# Altium integrated library Module.IntLib: 6 symbols
Pins are listed as number, name and electrical type; pins without a type are passive.

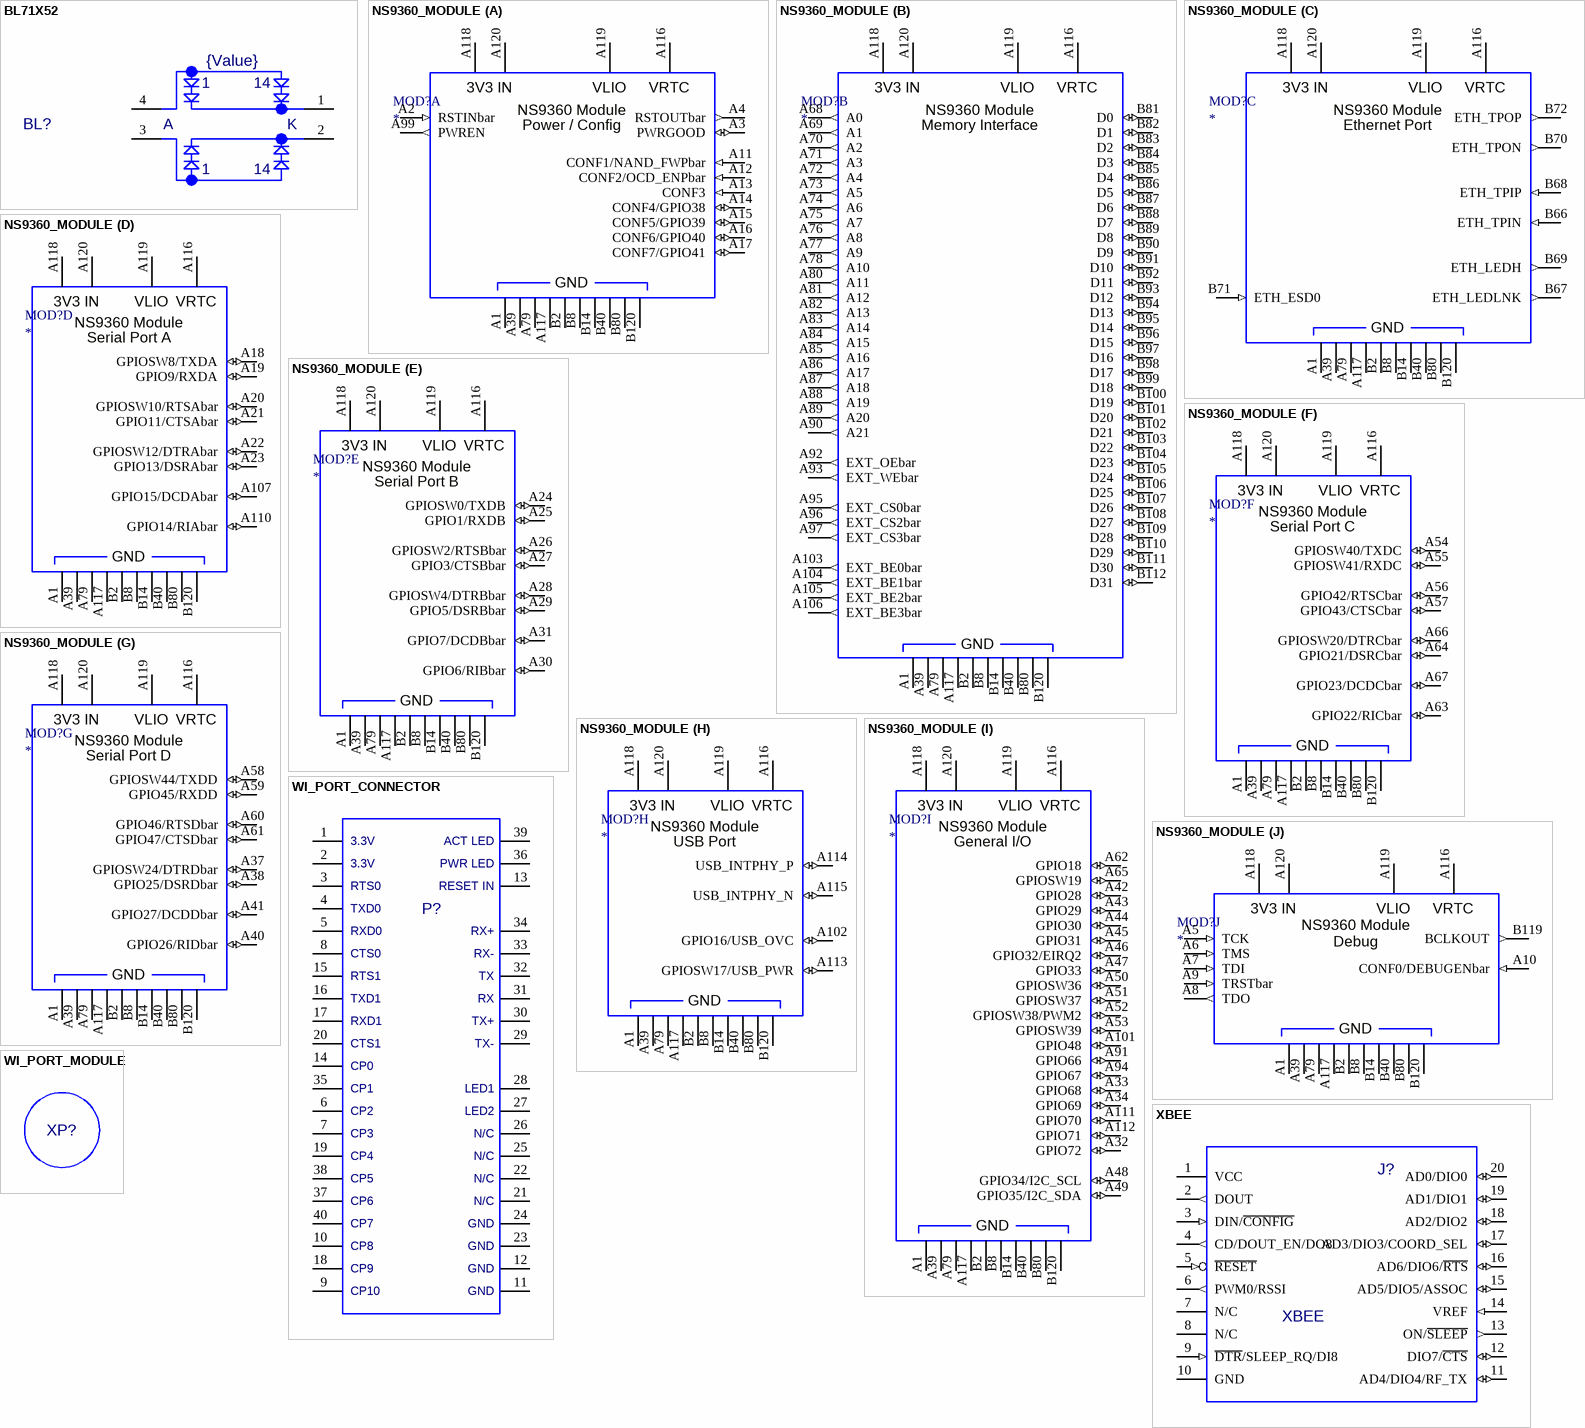
[diagram p0: symbols BL71X52 to XBEE]

## BL71X52
designator BL?, comment value {Value}  (hidden comment: TMP_US_BL71X52)
BACKLIGHT,; ECAD_Revsion: 1; Librarian: US; PartNumber: TMP_US_BL71X52; HelpURL: K:\ACCELEDA\PDF Spec Files\Display\; Item: *
footprint BL71X52 (?????)
pins: 1 K, 2 K, 3 A, 4 A
text: 14

## NS9360_MODULE
designator MOD?
MOD, Net Silicon NS9360 Module; PartNumber: AWT25-000120; ECAD_Revision: 1; Librarian: UK; HelpURL: *; Item: *; Power Rating: *
footprint NS9360_MODULE (Rev. 1)
part A pins: A1 GND (power) "Ground", A2 RSTINbar (in) "Reset Input", A3 PWRGOOD (io) "Power Good", A4 RSTOUTbar (out) "Reset Output", A11 CONF1/NAND_FWPbar (in) "NAND Flash Write Protect", A12 CONF2/OCD_ENPbar (in) "OCD Enable", A13 CONF3 (in) "Configuration 3", A14 CONF4/GPIO38 (io) "Configuration 4", A15 CONF5/GPIO39 (io) "Configuration 5", A16 CONF6/GPIO40 (io) "Configuration 6", A17 CONF7/GPIO41 (io) "Configuration 7", A39 GND (power) "Ground", A79 GND (power) "Ground", A99 PWREN (out) "Power Enable", A116 VRTC (power) "RTC Supply", A117 GND (power) "Ground", A118 3.3V_IN (power) "3.3V Supply", A119 VLIO (power) "Backup Supply", A120 3.3V_IN (power) "3.3V Supply", B2 GND (power) "Ground", B8 GND (power) "Ground", B14 GND (power) "Ground", B40 GND (power) "Ground", B80 GND (power) "Ground", B120 GND (power) "Ground"
part B pins: A1 GND (power) "Ground", A39 GND (power) "Ground", A68 A0 (out) "Address 0", A69 A1 (out) "Address 1", A70 A2 (out) "Address 2", A71 A3 (out) "Address 3", A72 A4 (out) "Address 4", A73 A5 (out) "Address 5", A74 A6 (out) "Address 6", A75 A7 (out) "Address 7", A76 A8 (out) "Address 8", A77 A9 (out) "Address 9", A78 A10 (out) "Address 10", A79 GND (power) "Ground", A80 A11 (out) "Address 11", A81 A12 (out) "Address 12", A82 A13 (out) "Address 13", A83 A14 (out) "Address 14", A84 A15 (out) "Address 15", A85 A16 (out) "Address 16", A86 A17 (out) "Address 17", A87 A18 (out) "Address 18", A88 A19 (out) "Address 19", A89 A20 (out) "Address 20", A90 A21 (out) "Address 21", A92 EXT_OEbar (out) "Output Enable", A93 EXT_WEbar (out) "Write Enabe", A95 EXT_CS0bar (out) "Chip Select 0", A96 EXT_CS2bar (out) "Chip Select 1", A97 EXT_CS3bar (out) "Chip Select 2", A103 EXT_BE0bar (out) "Upper / Lower Byte Enable 0", A104 EXT_BE1bar (out) "Upper / Lower Byte Enable 1", A105 EXT_BE2bar (out) "Upper / Lower Byte Enable 2", A106 EXT_BE3bar (out) "Upper / Lower Byte Enable 3", A116 VRTC (power) "RTC Supply", A117 GND (power) "Ground", A118 3.3V_IN (power) "3.3V Supply", A119 VLIO (power) "Backup Supply", A120 3.3V_IN (power) "3.3V Supply", B2 GND (power) "Ground", B8 GND (power) "Ground", B14 GND (power) "Ground", B40 GND (power) "Ground", B80 GND (power) "Ground", B81 D0 (io) "Data 0", B82 D1 (io) "Data 1", B83 D2 (io) "Data 2", B84 D3 (io) "Data 3", B85 D4 (io) "Data 4", B86 D5 (io) "Data 5", B87 D6 (io) "Data 6", B88 D7 (io) "Data 7", B89 D8 (io) "Data 8", B90 D9 (io) "Data 9", B91 D10 (io) "Data 10", B92 D11 (io) "Data 11", B93 D12 (io) "Data 12", B94 D13 (io) "Data 13", B95 D14 (io) "Data 14", B96 D15 (io) "Data 15", B97 D16 (io) "Data 16", B98 D17 (io) "Data 17", B99 D18 (io) "Data 18", B100 D19 (io) "Data 19", B101 D20 (io) "Data 20", B102 D21 (io) "Data 21", B103 D22 (io) "Data 22", B104 D23 (io) "Data 23", B105 D24 (io) "Data 24", B106 D25 (io) "Data 25", B107 D26 (io) "Data 26", B108 D27 (io) "Data 27", B109 D28 (io) "Data 28", B110 D29 (io) "Data 29", B111 D30 (io) "Data 30", B112 D31 (io) "Data 31", B120 GND (power) "Ground"
part C pins: A1 GND (power) "Ground", A39 GND (power) "Ground", A79 GND (power) "Ground", A116 VRTC (power) "RTC Supply", A117 GND (power) "Ground", A118 3.3V_IN (power) "3.3V Supply", A119 VLIO (power) "Backup Supply", A120 3.3V_IN (power) "3.3V Supply", B2 GND (power) "Ground", B8 GND (power) "Ground", B14 GND (power) "Ground", B40 GND (power) "Ground", B66 ETH_TPIN (in) "Ethernet Input Negative", B67 ETH_LEDLNK (out) "Ethernet Line / Activity LED", B68 ETH_TPIP (in) "Ethernet Input Positive", B69 ETH_LEDH (out) "Ethernet High Speed LED", B70 ETH_TPON (out) "Ethernet Output Negative", B71 ETH_ESD0 (in) "Ethernet Test", B72 ETH_TPOP (out) "Ethernet Output Positive", B80 GND (power) "Ground", B120 GND (power) "Ground"
part D pins: A1 GND (power) "Ground", A18 GPIOSW8/TXDA (io) "General Purpose IO / Transmit Data A", A19 GPIO9/RXDA (io) "General Purpose IO / Receive Data A", A20 GPIOSW10/RTSAbar (io) "General Purpose IO / Ready To Send A", A21 GPIO11/CTSAbar (io) "General Purpose IO / Clear To Send A", A22 GPIOSW12/DTRAbar (io) "General Purpose IO / Data Terminal Ready A", A23 GPIO13/DSRAbar (io) "General Purpose IO / Data Set Ready A", A39 GND (power) "Ground", A79 GND (power) "Ground", A107 GPIO15/DCDAbar (io) "General Purpose IO / Data Carrier Detect A", A110 GPIO14/RIAbar (io) "General Purpose IO / Receive Interupt A", A116 VRTC (power) "RTC Supply", A117 GND (power) "Ground", A118 3.3V_IN (power) "3.3V Supply", A119 VLIO (power) "Backup Supply", A120 3.3V_IN (power) "3.3V Supply", B2 GND (power) "Ground", B8 GND (power) "Ground", B14 GND (power) "Ground", B40 GND (power) "Ground", B80 GND (power) "Ground", B120 GND (power) "Ground"
part E pins: A1 GND (power) "Ground", A24 GPIOSW0/TXDB (io) "General Purpose IO / Transmit Data B", A25 GPIO1/RXDB (io) "General Purpose IO / Receive Data B", A26 GPIOSW2/RTSBbar (io) "General Purpose IO / Ready To Send B", A27 GPIO3/CTSBbar (io) "General Purpose IO / Clear To Send B", A28 GPIOSW4/DTRBbar (io) "General Purpose IO / Data Terminal Ready B", A29 GPIO5/DSRBbar (io) "General Purpose IO / Data Set Ready B", A30 GPIO6/RIBbar (io) "General Purpose IO / Receive Interupt B", A31 GPIO7/DCDBbar (io) "General Purpose IO / Data Carrier Detect B", A39 GND (power) "Ground", A79 GND (power) "Ground", A116 VRTC (power) "RTC Supply", A117 GND (power) "Ground", A118 3.3V_IN (power) "3.3V Supply", A119 VLIO (power) "Backup Supply", A120 3.3V_IN (power) "3.3V Supply", B2 GND (power) "Ground", B8 GND (power) "Ground", B14 GND (power) "Ground", B40 GND (power) "Ground", B80 GND (power) "Ground", B120 GND (power) "Ground"
part F pins: A1 GND (power) "Ground", A39 GND (power) "Ground", A54 GPIOSW40/TXDC (io) "General Purpose IO / Transmit Data C", A55 GPIOSW41/RXDC (io) "General Purpose IO / Receive Data C", A56 GPIO42/RTSCbar (io) "General Purpose IO / Ready To Send C", A57 GPIO43/CTSCbar (io) "General Purpose IO / Clear To Send C", A63 GPIO22/RICbar (io) "General Purpose IO / Receive Interupt C", A64 GPIO21/DSRCbar (io) "General Purpose IO / Data Set Ready C", A66 GPIOSW20/DTRCbar (io) "General Purpose IO / Data Terminal Ready C", A67 GPIO23/DCDCbar (io) "General Purpose IO / Data Carrier Detect C", A79 GND (power) "Ground", A116 VRTC (power) "RTC Supply", A117 GND (power) "Ground", A118 3.3V_IN (power) "3.3V Supply", A119 VLIO (power) "Backup Supply", A120 3.3V_IN (power) "3.3V Supply", B2 GND (power) "Ground", B8 GND (power) "Ground", B14 GND (power) "Ground", B40 GND (power) "Ground", B80 GND (power) "Ground", B120 GND (power) "Ground"
part G pins: A1 GND (power) "Ground", A37 GPIOSW24/DTRDbar (io) "General Purpose IO / Data Terminal Ready D", A38 GPIO25/DSRDbar (io) "General Purpose IO / Data Set Ready D", A39 GND (power) "Ground", A40 GPIO26/RIDbar (io) "General Purpose IO / Receive Interupt D", A41 GPIO27/DCDDbar (io) "General Purpose IO / Data Carrier Detect D", A58 GPIOSW44/TXDD (io) "General Purpose IO / Transmit Data D", A59 GPIO45/RXDD (io) "General Purpose IO / Receive Data D", A60 GPIO46/RTSDbar (io) "General Purpose IO / Ready To Send D", A61 GPIO47/CTSDbar (io) "General Purpose IO / Clear To Send D", A79 GND (power) "Ground", A116 VRTC (power) "RTC Supply", A117 GND (power) "Ground", A118 3.3V_IN (power) "3.3V Supply", A119 VLIO (power) "Backup Supply", A120 3.3V_IN (power) "3.3V Supply", B2 GND (power) "Ground", B8 GND (power) "Ground", B14 GND (power) "Ground", B40 GND (power) "Ground", B80 GND (power) "Ground", B120 GND (power) "Ground"
part H pins: A1 GND (power) "Ground", A39 GND (power) "Ground", A79 GND (power) "Ground", A102 GPIO16/USB_OVC (io) "General Purpose IO / USB Over Current", A113 GPIOSW17/USB_PWR (io) "General Purpose IO / USB Power Relay", A114 USB_INTPHY_P (io) "USB Data Positive", A115 USB_INTPHY_N (io) "USB Data Negative", A116 VRTC (power) "RTC Supply", A117 GND (power) "Ground", A118 3.3V_IN (power) "3.3V Supply", A119 VLIO (power) "Backup Supply", A120 3.3V_IN (power) "3.3V Supply", B2 GND (power) "Ground", B8 GND (power) "Ground", B14 GND (power) "Ground", B40 GND (power) "Ground", B80 GND (power) "Ground", B120 GND (power) "Ground"
part I pins: A1 GND (power) "Ground", A32 GPIO72 (io) "General Purpose IO", A33 GPIO68 (io) "General Purpose IO", A34 GPIO69 (io) "General Purpose IO", A39 GND (power) "Ground", A42 GPIO28 (io) "General Purpose IO", A43 GPIO29 (io) "General Purpose IO", A44 GPIO30 (io) "General Purpose IO", A45 GPIO31 (io) "General Purpose IO", A46 GPIO32/EIRQ2 (io) "General Purpose IO / External Interupt 2", A47 GPIO33 (io) "General Purpose IO", A48 GPIO34/I2C_SCL (io) "General Purpose IO / I2C Clock", A49 GPIO35/I2C_SDA (io) "General Purpose IO / I2C Data", A50 GPIOSW36 (io) "General Purpose IO", A51 GPIOSW37 (io) "General Purpose IO", A52 GPIOSW38/PWM2 (io) "General Purpose IO / PWM Output 2", A53 GPIOSW39 (io) "General Purpose IO", A62 GPIO18 (io) "General Purpose IO", A65 GPIOSW19 (io) "General Purpose IO", A79 GND (power) "Ground", A91 GPIO66 (io) "General Purpose IO", A94 GPIO67 (io) "General Purpose IO", A101 GPIO48 (io) "General Purpose IO", A111 GPIO70 (io) "General Purpose IO", A112 GPIO71 (io) "General Purpose IO", A116 VRTC (power) "RTC Supply", A117 GND (power) "Ground", A118 3.3V_IN (power) "3.3V Supply", A119 VLIO (power) "Backup Supply", A120 3.3V_IN (power) "3.3V Supply", B2 GND (power) "Ground", B8 GND (power) "Ground", B14 GND (power) "Ground", B40 GND (power) "Ground", B80 GND (power) "Ground", B120 GND (power) "Ground"
part J pins: A1 GND (power) "Ground", A5 TCK (in) "JTAG Test Clock", A6 TMS (in) "JTAG Test Mode Select", A7 TDI (in) "JTAG Test Data In", A8 TDO (out) "JTAG Test Data Out", A9 TRSTbar (in) "JTAG Test Reset", A10 CONF0/DEBUGENbar (in) "Debug Enable", A39 GND (power) "Ground", A79 GND (power) "Ground", A116 VRTC (power) "RTC Supply", A117 GND (power) "Ground", A118 3.3V_IN (power) "3.3V Supply", A119 VLIO (power) "Backup Supply", A120 3.3V_IN (power) "3.3V Supply", B2 GND (power) "Ground", B8 GND (power) "Ground", B14 GND (power) "Ground", B40 GND (power) "Ground", B80 GND (power) "Ground", B119 BCLKOUT (out) "Clock Output", B120 GND (power) "Ground"
part A text: 3V3 IN; NS9360 Module; Power / Config
part B text: 3V3 IN; NS9360 Module; Memory Interface
part C text: 3V3 IN; NS9360 Module; Ethernet Port
part D text: 3V3 IN; NS9360 Module; Serial Port A
part E text: 3V3 IN; NS9360 Module; Serial Port B
part F text: 3V3 IN; NS9360 Module; Serial Port C
part G text: 3V3 IN; NS9360 Module; Serial Port D
part H text: 3V3 IN; NS9360 Module; USB Port
part I text: 3V3 IN; NS9360 Module; General I/O
part J text: 3V3 IN; NS9360 Module; Debug

## WI_PORT_CONNECTOR
designator P?, comment 60133-0160  (value not drawn)
Connector, 40 Pin Male; ECAD_Revsion: 1; Librarian: US; Value: {Value}; PartNumber: 60133-0160; Power Rating: *; HelpURL: K:\ACCELEDA\PDF Spec Files\RF_MODULES\WIPORT.PDF; Item: *
footprint WI_PORT
pins: 1 3.3V, 2 3.3V, 3 RTS0, 4 TXD0, 5 RXD0, 6 CP2, 7 CP3, 8 CTS0, 9 CP10, 10 CP8, 11 GND, 12 GND, 13 RESETIN, 14 CP0, 15 RTS1, 16 TXD1, 17 RXD1, 18 CP9, 19 CP4, 20 CTS1, 21 N/C, 22 N/C1, 23 GND, 24 GND, 25 N/C3, 26 N/C4, 27 LED2, 28 LED1, 29 TX-, 30 TX+, 31 RX, 32 TX, 33 RX-, 34 RX+, 35 CP1, 36 PWR_LED, 37 CP6, 38 CP5, 39 ACT_LED, 40 CP7, 41 GND (power) hidden, 42 GND (power) hidden, 43 GND (power) hidden, 44 GND (power) hidden
text: ACT LED; PWR LED; RESET IN

## WI_PORT_MODULE
designator XP?, comment 60134-0011  (value not drawn)
WiPort Module; Value: {Value}; ECAD_Revsion: 1; Librarian: US; PartNumber: 60134-0011; Power Rating: *; HelpURL: K:\ACCELEDA\PDF Spec Files\RF_MODULES\WIPORT.PDF; Item: *
footprint WI_PORT_MODULE

## XBEE
designator J?, comment value XBEE  (hidden comment: TMP_US_XBEE)
MODULE, RF XBEE; ECAD_Revsion: 1; Librarian: US; PartNumber: TMP_US_XBEE; HelpURL: K:\ACCELEDA\PDF Spec Files\RF_MODULES/XBEE-MODULES.PDF; Item: *
footprint XBEE
pins: 1 VCC (power), 2 DOUT (out), 3 DIN/~{CONFIG} (in), 4 CD/DOUT_EN/DO8 (out), 5 ~{RESET} (in), 6 PWM0/RSSI (out), 7 N/C, 8 N/C, 9 ~{DTR}/SLEEP_RQ/DI8 (in), 10 GND (power), 11 AD4/DIO4/RF_TX (io), 12 DIO7/~{CTS} (io), 13 ON/~{SLEEP} (out), 14 VREF (in), 15 AD5/DIO5/ASSOC (io), 16 AD6/DIO6/~{RTS} (io), 17 AD3/DIO3/COORD_SEL (io), 18 AD2/DIO2 (io), 19 AD1/DIO1 (io), 20 AD0/DIO0 (io)

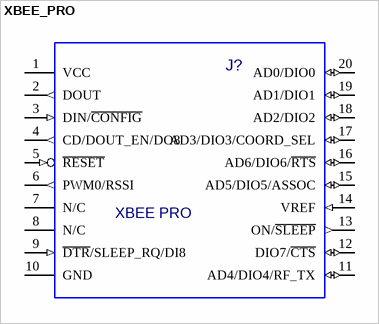
[diagram p1: symbol XBEE_PRO]

## XBEE_PRO
designator J?, comment value XBEE PRO  (hidden comment: TMP+US_XBEE_PRO)
MODULE, RF XBEE PRO; ECAD_Revsion: 1; Librarian: US; PartNumber: TMP+US_XBEE_PRO; HelpURL: K:\ACCELEDA\PDF Spec Files\RF_MODULES/XBEE-MODULES.PDF; Item: *
footprint XBEE PRO
pins: 1 VCC (power), 2 DOUT (out), 3 DIN/~{CONFIG} (in), 4 CD/DOUT_EN/DO8 (out), 5 ~{RESET} (in), 6 PWM0/RSSI (out), 7 N/C, 8 N/C, 9 ~{DTR}/SLEEP_RQ/DI8 (in), 10 GND (power), 11 AD4/DIO4/RF_TX (io), 12 DIO7/~{CTS} (io), 13 ON/~{SLEEP} (out), 14 VREF (in), 15 AD5/DIO5/ASSOC (io), 16 AD6/DIO6/~{RTS} (io), 17 AD3/DIO3/COORD_SEL (io), 18 AD2/DIO2 (io), 19 AD1/DIO1 (io), 20 AD0/DIO0 (io)